# EAGLE library part LTC4099 (library linear-technology)
USB Power Manager/Charger
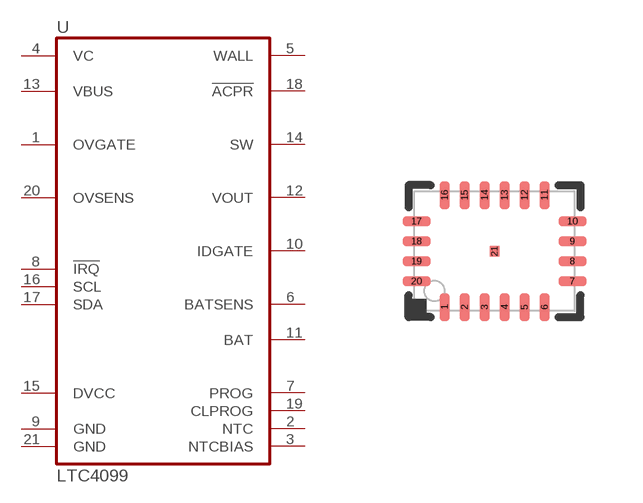
[diagram p52: symbol with the pads of QFN20-UDC; footprint QFN20-UDC]

Designator prefix U

## LTC4099  [QFN20-UDC]
1  OVGATE  out
2  NTC  pas
3  NTCBIAS  pas
4  VC  out
5  WALL  in
6  BATSENS  in
7  PROG  pas
8  !IRQ!  out
9  GND  pwr
10  IDGATE  out
11  BAT  out
12  VOUT  out
13  VBUS  in
14  SW  out
15  DVCC  pwr
16  SCL  in
17  SDA
18  !ACPR!  out
19  CLPROG  pas
20  OVSENS  in
21  GND  pwr

## Footprint QFN20-UDC (pad centres in mm)
QFN20 - UDC body 3 x 4 mm
smd 0.25 x 0.7: 1 -1.25,-1.4; 2 -0.75,-1.4; 3 -0.25,-1.4; 4 0.25,-1.4; 5 0.75,-1.4; 6 1.25,-1.4; 11 1.25,1.4; 12 0.75,1.4; 13 0.25,1.4; 14 -0.25,1.4; 15 -0.75,1.4; 16 -1.25,1.4
smd 0.7 x 0.25: 7 1.95,-0.75; 8 1.95,-0.25; 9 1.95,0.25; 10 1.95,0.75; 17 -1.95,0.75; 18 -1.95,0.25; 19 -1.95,-0.25; 20 -1.95,-0.75
smd 0.25 x 0.25: 21 0,0